# Altium footprint library Common.PcbLib: 1 footprints
Each footprint in its own frame and in the unit in brackets; x right, y up, seen from the top. Pads: shape width x height; smd on the part's side, far side on the other; paste and mask are expansions set on the pad; w line width, h text height; cw(c..) or ccw(c..) is an arc to the next point about the centre after c.
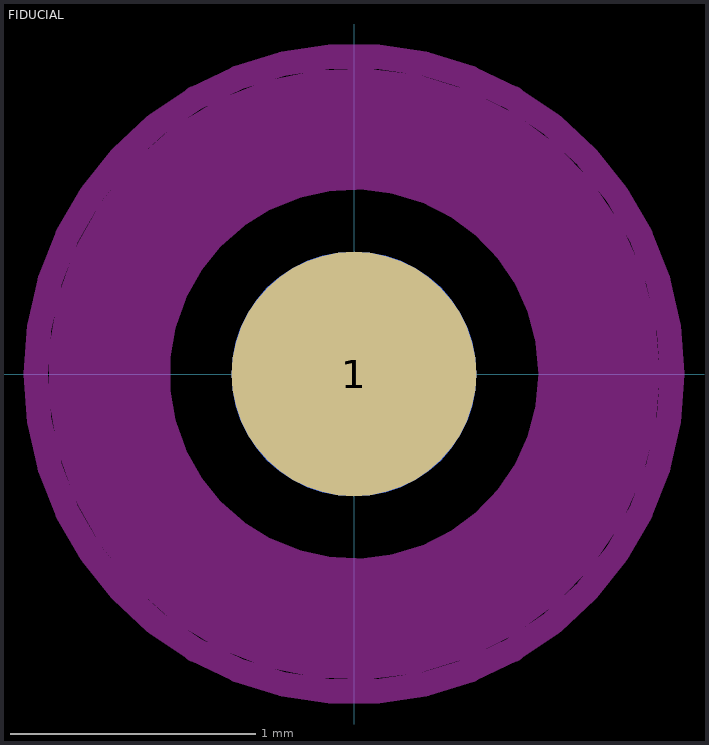
[diagram p0: the footprint, top view; thin cyan lines are the x and y axes]

## FIDUCIAL [mm] "Fiducial Marker"
pads (2):
  round 1 smd mask+0.75: 1(0,0)
  round 1 smd far side mask+0.75: 1(0,0)
Keep-Out Layer:
  circle w0.496: c0,0 r1.002
  circle w0.1: c0,0 r1.3